# Altium footprint library IDCI_WifiNode_2_R00.PcbLib: 19 footprints (part 2 of 2)
Each footprint in its own frame and in the unit in brackets; x right, y up, seen from the top. Pads: shape width x height; smd on the part's side, far side on the other; paste and mask are expansions set on the pad; w line width, h text height; cw(c..) or ccw(c..) is an arc to the next point about the centre after c.
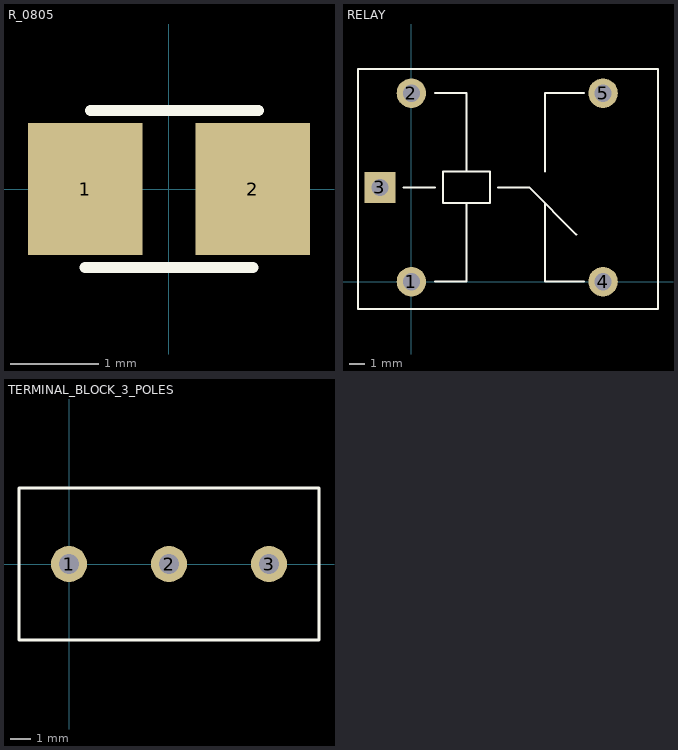
[diagram p1: the footprints below, top view; thin cyan lines are the x and y axes]

## R_0805 [mm]
pads (2):
  rect 1.3x1.5 smd: 1(-0.95,0) 2(0.95,0)
Top Overlay:
  lines w0.127: -0.953,-0.889 -0.476,-0.889 0.476,-0.889 0.953,-0.889 ; -0.889,0.889 1.016,0.889
3D body: height 0.25, standoff 0, extent -0.968,-0.889 0.968,0.889

## RELAY [mm]
pads (5):
  round 1.88 hole 1.1: 1(0,0) 2(0,12) 4(12.2,0) 5(12.2,12)
  rect 1.98x1.98 hole 1.1: 3(-2,6)
Top Overlay:
  lines w0.127: -0.5,6 1.5,6 ; 1.5,0 3.5,0 3.5,5 ; 1.5,12 3.5,12 3.5,7 ; 5.5,6 7,6 7.5,6 10.5,3 ; 8.5,5 8.5,0 11,0 ; 8.5,7 8.5,12 9,12 11,12 ; 3.5,5 2,5 2,7 3.5,7 ; 3.5,5 5,5 5,7 3.5,7 ; 10.5,3 10.5,3 ; -3.4,-1.75 -3.4,13.55 15.7,13.55 15.7,-1.75 -3.4,-1.75

## TERMINAL_BLOCK_3_POLES [mm]
pads (3):
  round 1.8 hole 1: 1(0,0) 2(5,0) 3(10,0)
Top Overlay:
  lines w0.127: -2.5,-3.8 5,-3.8 12.5,-3.8 12.5,3.8 5,3.8 -2.5,3.8 -2.5,-3.8